# EAGLE library part MCP2551 (library MCP2551)
The MCP2551 is a high-speed CAN, fault-tolerant device that serves as the interface between a CAN protocol controller and the physical bus. The MCP2551 provides differential transmit and receive capability for the CAN protocol controller and is fully compatible with the ISO-11898 standard, including 24V requirements. It will operate at speeds of up to 1 Mb/s. Typically, each node in a CAN system must have a device to convert the digital signals generated by a CAN controller to signals suitable for transmission over the bus cabling (differential output). It also provides a buffer between the CAN controller and the high-voltage spikes that can be generated on the CAN bus by outside sources (EMI, ESD, electrical transients, etc.).
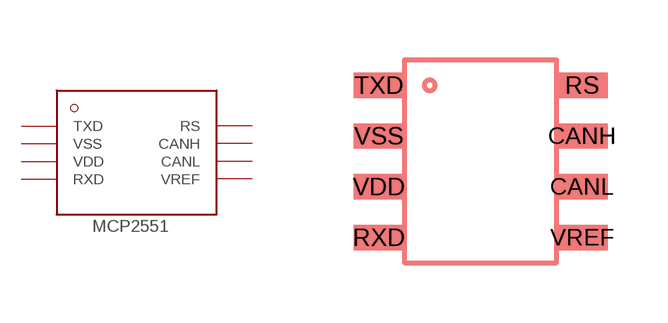
[diagram p0: symbol with the pads of SOIC-8; footprint SOIC-8]

Designator prefix -

## MCP2551  [SOIC-8]
CANH  CANH
CANL  CANL
RS  RS
RXD  RXD
TXD  TXD
VDD  VDD
VREF  VREF
VSS  VSS

## Footprint SOIC-8 (pad centres in mm)
smd 1.27 x 0.635: CANH 2.54,0.635; CANL 2.54,-0.635; RS 2.54,1.905; RXD -2.54,-1.905; TXD -2.54,1.905; VDD -2.54,-0.635; VREF 2.54,-1.905; VSS -2.54,0.635